# Altium footprint library MCXE31B.PcbLib: 35 footprints (part 2 of 3)
Each footprint in its own frame and in the unit in brackets; x right, y up, seen from the top. Pads: shape width x height; smd on the part's side, far side on the other; paste and mask are expansions set on the pad; w line width, h text height; cw(c..) or ccw(c..) is an arc to the next point about the centre after c.
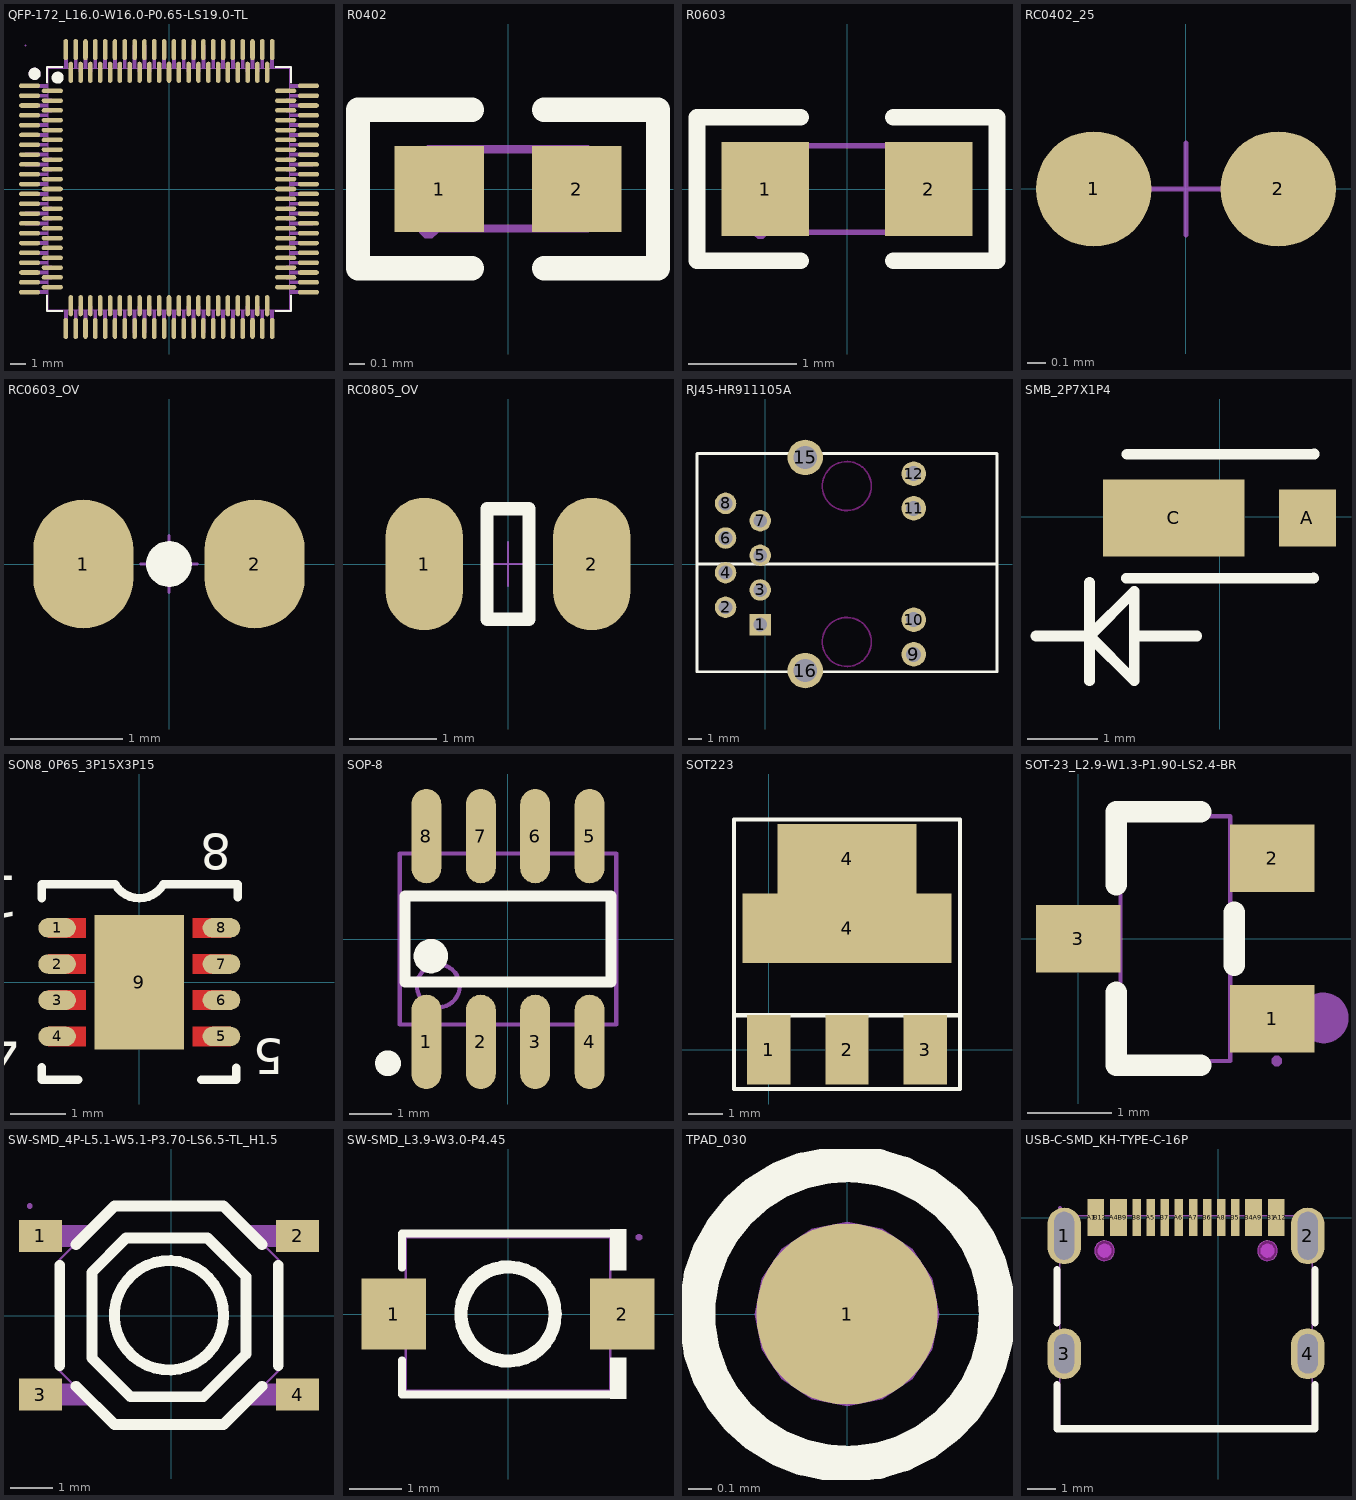
[diagram p1: the footprints below, top view; thin cyan lines are the x and y axes]

## QFP-172_L16.0-W16.0-P0.65-LS19.0-TL [mm]
height 13.3
pads (172):
  oval 1.4x0.3 smd paste+0.051: 1(-9.225,6.825) 2(-7.723,6.5) 3(-9.225,6.175) 4(-7.723,5.85) 5(-9.225,5.525) 6(-7.723,5.2) 7(-9.225,4.875) 8(-7.723,4.55) 9(-9.225,4.225) 10(-7.723,3.9) 11(-9.225,3.575) 12(-7.723,3.25) 13(-9.225,2.925) 14(-7.723,2.6) 15(-9.225,2.275) 16(-7.723,1.95) 17(-9.225,1.625) 18(-7.723,1.3) 19(-9.225,0.975) 20(-7.723,0.65) 21(-9.225,0.325) 22(-7.723,0) 23(-9.225,-0.325) 24(-7.723,-0.65) 25(-9.225,-0.975) 26(-7.723,-1.3) 27(-9.225,-1.625) 28(-7.723,-1.95) 29(-9.225,-2.275) 30(-7.723,-2.6) 31(-9.225,-2.925) 32(-7.723,-3.25) 33(-9.225,-3.575) 34(-7.723,-3.9) 35(-9.225,-4.225) 36(-7.723,-4.55) 37(-9.225,-4.875) 38(-7.723,-5.2) 39(-9.225,-5.525) 40(-7.723,-5.85) 41(-9.225,-6.175) 42(-7.723,-6.5) 43(-9.225,-6.825) 87(9.225,-6.825) 88(7.723,-6.5) 89(9.225,-6.175) 90(7.723,-5.85) 91(9.225,-5.525) 92(7.723,-5.2) 93(9.225,-4.875) 94(7.723,-4.55) 95(9.225,-4.225) 96(7.723,-3.9) 97(9.225,-3.575) 98(7.723,-3.25) 99(9.225,-2.925) 100(7.723,-2.6) 101(9.225,-2.275) 102(7.723,-1.95) 103(9.225,-1.625) 104(7.723,-1.3) 105(9.225,-0.975) 106(7.723,-0.65) 107(9.225,-0.325) 108(7.723,0) 109(9.225,0.325) 110(7.723,0.65) 111(9.225,0.975) 112(7.723,1.3) 113(9.225,1.625) 114(7.723,1.95) 115(9.225,2.275) 116(7.723,2.6) 117(9.225,2.925) 118(7.723,3.25) 119(9.225,3.575) 120(7.723,3.9) 121(9.225,4.225) 122(7.723,4.55) 123(9.225,4.875) 124(7.723,5.2) 125(9.225,5.525) 126(7.723,5.85) 127(9.225,6.175) 128(7.723,6.5) 129(9.225,6.825)
  oval 0.3x1.4 smd paste+0.051: 44(-6.825,-9.225) 45(-6.5,-7.723) 46(-6.175,-9.225) 47(-5.85,-7.723) 48(-5.525,-9.225) 49(-5.2,-7.723) 50(-4.875,-9.225) 51(-4.55,-7.723) 52(-4.225,-9.225) 53(-3.9,-7.723) 54(-3.575,-9.225) 55(-3.25,-7.723) 56(-2.925,-9.225) 57(-2.6,-7.723) 58(-2.275,-9.225) 59(-1.95,-7.723) 60(-1.625,-9.225) 61(-1.3,-7.723) 62(-0.975,-9.225) 63(-0.65,-7.723) 64(-0.325,-9.225) 65(0,-7.723) 66(0.325,-9.225) 67(0.65,-7.723) 68(0.975,-9.225) 69(1.3,-7.723) 70(1.625,-9.225) 71(1.95,-7.723) 72(2.275,-9.225) 73(2.6,-7.723) 74(2.925,-9.225) 75(3.25,-7.723) 76(3.575,-9.225) 77(3.9,-7.723) 78(4.225,-9.225) 79(4.55,-7.723) 80(4.875,-9.225) 81(5.2,-7.723) 82(5.525,-9.225) 83(5.85,-7.723) 84(6.175,-9.225) 85(6.5,-7.723) 86(6.825,-9.225) 130(6.825,9.225) 131(6.5,7.723) 132(6.175,9.225) 133(5.85,7.723) 134(5.525,9.225) 135(5.2,7.723) 136(4.875,9.225) 137(4.55,7.723) 138(4.225,9.225) 139(3.9,7.723) 140(3.575,9.225) 141(3.25,7.723) 142(2.925,9.225) 143(2.6,7.723) 144(2.275,9.225) 145(1.95,7.723) 146(1.625,9.225) 147(1.3,7.723) 148(0.975,9.225) 149(0.65,7.723) 150(0.325,9.225) 151(0,7.723) 152(-0.325,9.225) 153(-0.65,7.723) 154(-0.975,9.225) 155(-1.3,7.723) 156(-1.625,9.225) 157(-1.95,7.723) 158(-2.275,9.225) 159(-2.6,7.723) 160(-2.925,9.225) 161(-3.25,7.723) 162(-3.575,9.225) 163(-3.9,7.723) 164(-4.225,9.225) 165(-4.55,7.723) 166(-4.875,9.225) 167(-5.2,7.723) 168(-5.525,9.225) 169(-5.85,7.723) 170(-6.175,9.225) 171(-6.5,7.723) 172(-6.825,9.225)
Top Overlay:
  circle w0.4: c-7.366,7.366 r0.2
  circle w0.4: c-8.891,7.623 r0.2
  lines w0.152: -8.076,-7.068 -8.076,-8.076 -7.068,-8.076 ; -8.076,7.068 -8.076,8.076 -7.068,8.076 ; 7.068,-8.076 8.076,-8.076 8.076,-7.068 ; 7.068,8.076 8.076,8.076 8.076,7.068
Bottom Courtyard:
  lines w0.051: -8,-8 8,-8 8,8 -8,8 -8,-8
Top 3D Body:
  drawing of 88 lines, arcs and shapes, not listed
Bottom 3D Body:
  region: -9.44,9.5 -9.44,9.475 -9.475,9.44 -9.525,9.44 -9.56,9.475 -9.56,9.5 -9.56,9.525 -9.525,9.56 -9.475,9.56 -9.44,9.525
Top Component Center:
  drawing of 172 lines, arcs and shapes, not listed
Bottom Assembly:
  circle w0.4: c-8.891,7.623 r0.2

## R0402 [mm]
pads (2):
  rect 0.566x0.54 smd paste-100 mask+0.051: 1(-0.433,0) 2(0.433,0)
Top Overlay:
  lines w0.152: -0.226,-0.499 -0.944,-0.499 -0.944,0.499 -0.226,0.499 ; 0.226,-0.499 0.944,-0.499 0.944,0.499 0.226,0.499
Top Paste:
  region: -0.135,-0.23 -0.135,0.23 -0.175,0.27 -0.676,0.27 -0.716,0.23 -0.716,-0.23 -0.676,-0.27 -0.175,-0.27
  region: 0.135,-0.23 0.135,0.23 0.175,0.27 0.676,0.27 0.716,0.23 0.716,-0.23 0.676,-0.27 0.175,-0.27
Mechanical 15:
  region: -0.5,-0.19 -0.525,-0.19 -0.559,-0.225 -0.56,-0.275 -0.525,-0.31 -0.5,-0.31 -0.475,-0.31 -0.441,-0.275 -0.441,-0.225 -0.475,-0.19 -0.5,-0.19
  region: -0.249,0.25 -0.249,-0.25 -0.499,-0.25 -0.499,0.25
  region: 0.251,-0.25 0.251,0.25 0.501,0.25 0.501,-0.25
  lines w0.051: -0.5,-0.25 0.5,-0.25 0.5,0.25 -0.5,0.25 -0.5,-0.25

## R0603 [mm]
height 13.3
pads (2):
  rect 0.806x0.864 smd paste-100 mask+0.051: 1(-0.753,0) 2(0.753,0)
Top Overlay:
  lines w0.152: -0.426,-0.661 -1.385,-0.661 -1.385,0.661 -0.426,0.661 ; 0.426,-0.661 1.385,-0.661 1.385,0.661 0.426,0.661
Top Paste:
  region: 1.195,0.45 0.395,0.45 0.345,0.4 0.345,0.172 0.715,0.172 0.715,-0.158 0.345,-0.158 0.345,-0.4 0.395,-0.45 1.195,-0.45 1.245,-0.4 1.245,0.4
  region: -0.355,0.4 -0.355,0.172 -0.735,0.172 -0.735,-0.158 -0.355,-0.158 -0.355,-0.4 -0.405,-0.45 -1.195,-0.45 -1.245,-0.4 -1.245,0.4 -1.195,0.45 -0.405,0.45
Mechanical 15:
  region: -0.8,-0.4 -0.8,0.4 -0.5,0.4 -0.5,-0.4
  region: 0.8,-0.4 0.8,0.4 0.5,0.4 0.5,-0.4
  region: -0.8,-0.34 -0.825,-0.34 -0.86,-0.375 -0.86,-0.425 -0.825,-0.46 -0.8,-0.46 -0.775,-0.46 -0.74,-0.425 -0.74,-0.375 -0.775,-0.34 -0.8,-0.34
  lines w0.051: -0.8,-0.4 -0.8,0.4 0.8,0.4 0.8,-0.4 -0.8,-0.4

## RC0402_25 [mil]
height 523.62
pads (2):
  round 25 smd: 1(-20,0) 2(20,0)
Top Component Center:
  lines w1: -10,0 10,0 ; 0,-10 0,10

## RC0603_OV [mil]
height 523.62
pads (2):
  oval 35x45 smd: 1(-30,0) 2(30,0)
Top Overlay:
  circle w6: c0,0 r5
  dashed: 3.03,0.04 2.14,-2.1 0,-2.99 -1.41,-2.4 -2.14,-2.1 -3.03,0.04 -2.14,2.18 -1.41,2.48 0,3.07 2.14,2.18
Top Component Center:
  lines w1: -10,0 10,0 ; 0,-10 0,10

## RC0805_OV [mil]
pads (2):
  oval 35x60 smd: 1(-38,0) 2(38,0)
Top Overlay:
  lines w6: -9.5,-25 -9.5,25 9.5,25 9.5,-25 -9.5,-25
Top Component Center:
  lines w1: -10,0 10,0 ; 0,-10 0,10

## RJ45-HR911105A [mm] "HR911105A"
height 1.5
pads (14):
  rect 1.575x1.575 hole 1.016: 1(-0.38,-4.445)
  round 1.575 hole 1.016: 2(-2.92,-3.175) 3(-0.38,-1.905) 4(-2.92,-0.635) 5(-0.38,0.635) 6(-2.92,1.905) 7(-0.38,3.175) 8(-2.92,4.445)
  round 1.8 hole 1.1: 9(10.87,-6.625) 10(10.87,-4.085) 11(10.87,4.085) 12(10.87,6.625)
  round 2.6 hole 1.7: 15(2.92,7.815) 16(2.92,-7.815)
Top Overlay:
  lines w0.2: -5.013,0 16.87,0
  lines w0.203: -5.017,-7.91 -5.011,-7.904 ; -5.017,8.092 -5.013,8.096 ; 16.977,-7.904 2.823,-7.904 -5.011,-7.904 ; 16.979,8.096 2.823,8.096 -5.013,8.096 ; 16.983,-7.91 16.983,8.092 ; -5.013,8.096 -5.013,-7.902 -5.011,-7.904
Keep-Out Layer:
  circle w0.127: c5.97,-5.715 r1.798
  circle w0.127: c5.97,5.715 r1.798

## SMB_2P7X1P4 [mil]
pads (2):
  rect 32x32 smd: A(49.15,-0.59)
  rect 79x43 smd: C(-25.65,-0.59)
Top Overlay:
  lines w6: -102.73,-66.68 -72.73,-66.68 ; -72.73,-91.68 -72.73,-36.68 ; -52.19,-34.41 52.62,-34.41 52.62,-34.17 ; -51.75,35.04 53.05,35.04 53.05,35.28 ; -47.73,-66.68 -12.73,-66.68 ; -72.73,-66.68 -47.73,-41.68 -47.73,-91.68 -72.73,-66.68
Top Component Center:
  lines w1: -10.06,-0.59 9.94,-0.59 ; -0.06,-10.59 -0.06,9.41

## SON8_0P65_3P15X3P15 [mm]
pads (9):
  oval 0.675x0.35 smd: 1(-1.475,0.975) 2(-1.475,0.325) 3(-1.475,-0.325) 4(-1.475,-0.975) 5(1.475,-0.975) 6(1.475,-0.325) 7(1.475,0.325) 8(1.475,0.975)
  rect 1.6x2.413 smd: 9(0,0)
Top Layer:
  region: -0.962,-1.15 -1.637,-1.15 -1.637,-0.8 -0.962,-0.8
  region: -0.962,-0.5 -1.637,-0.5 -1.637,-0.15 -0.962,-0.15
  region: -0.962,0.15 -1.637,0.15 -1.637,0.5 -0.962,0.5
  region: -0.962,0.8 -1.637,0.8 -1.637,1.15 -0.962,1.15
  region: 0.962,-0.8 1.637,-0.8 1.637,-1.15 0.962,-1.15
  region: 0.962,-0.15 1.637,-0.15 1.637,-0.5 0.962,-0.5
  region: 0.962,0.5 1.637,0.5 1.637,0.15 0.962,0.15
  region: 0.962,1.15 1.637,1.15 1.637,0.8 0.962,0.8
Top Overlay:
  lines w0.152: -1.754,1.505 -1.754,1.753 -0.431,1.753 ccw(c0,2.007) 0.431,1.753 1.767,1.753 1.767,1.522 ; -1.748,-1.53 -1.748,-1.754 -1.095,-1.754 ; 1.115,-1.754 1.742,-1.754 1.742,-1.537
  text "8" at 1.651,2.667 h0.64
  text "4" at -2.159,-0.889 h0.76
  text "5" at 2.591,-1.016 h0.64
  text "1" at -2.159,1.905 h0.76
Top Paste:
  dashed: 0.125,-1.125 0.775,-1.125 0.775,-0.125 0.125,-0.125
  dashed: -0.775,-1.125 -0.125,-1.125 -0.125,-0.125 -0.775,-0.125
  dashed: -0.775,0.125 -0.125,0.125 -0.125,1.125 -0.775,1.125
  dashed: 0.125,0.125 0.775,0.125 0.775,1.125 0.125,1.125
  region: -1,-1.125 -1.65,-1.125 -1.65,-0.825 -1,-0.825
  region: -1,-0.475 -1.65,-0.475 -1.65,-0.175 -1,-0.175
  region: -1,0.175 -1.65,0.175 -1.65,0.475 -1,0.475
  region: -1,0.825 -1.65,0.825 -1.65,1.125 -1,1.125
  region: 1,-0.825 1.65,-0.825 1.65,-1.125 1,-1.125
  region: 1,-0.175 1.65,-0.175 1.65,-0.475 1,-0.475
  region: 1,0.475 1.65,0.475 1.65,0.175 1,0.175
  region: 1,1.125 1.65,1.125 1.65,0.825 1,0.825
Top Solder:
  region: -0.886,-1.201 -1.612,-1.201 -1.612,-0.749 -0.886,-0.749
  region: -0.886,-0.551 -1.612,-0.551 -1.612,-0.099 -0.886,-0.099
  region: -0.886,0.099 -1.612,0.099 -1.612,0.551 -0.886,0.551
  region: -0.886,0.749 -1.612,0.749 -1.612,1.201 -0.886,1.201
  region: 0.886,-0.749 1.612,-0.749 1.612,-1.201 0.886,-1.201
  region: 0.886,-0.099 1.612,-0.099 1.612,-0.551 0.886,-0.551
  region: 0.886,0.551 1.612,0.551 1.612,0.099 0.886,0.099
  region: 0.886,1.201 1.612,1.201 1.612,0.749 0.886,0.749
Top Component Center:
  lines w0.025: -0.254,0 0.254,0 ; 0,-0.254 0,0.254

## SOP-8 [mm]
height 13.3
pads (8):
  oval 0.7x2.2 smd: 1(-1.905,-2.4) 2(-0.635,-2.4) 3(0.635,-2.4) 4(1.905,-2.4) 5(1.905,2.4) 6(0.635,2.4) 7(-0.635,2.4) 8(-1.905,2.4)
Top Overlay:
  circle w0.3: c-2.8,-2.9 r0.15
  circle w0.4: c-1.8,-0.4 r0.2
  lines w0.254: -2.4,-1 2.4,-1 2.4,1 -2.4,1 -2.4,-1
Mechanical 13:
  circle w0.1: c-1.625,-1.095 r0.5
  lines w0.1: -2.525,-1.995 2.525,-1.995 2.525,1.995 -2.525,1.995 -2.525,-1.995
3D body "User Library-SOIC-8-150.STEP": height 1.75, standoff 0, extent -2.5,-3.1 2.5,3.1

## SOT223 [mil]
height 59.06
pads (5):
  rect 50x80 smd: 1(0,0) 2(90,0) 3(180,0)
  rect 240x80 smd: 4(90,140)
  rect 160x80 smd: 4(90,220)
Top Overlay:
  lines w5: -40,40 220,40 ; -40,-45 220,-45 220,265 -40,265 -40,-45

## SOT-23_L2.9-W1.3-P1.90-LS2.4-BR [mm]
height 13.3
pads (3):
  rect 1x0.8 smd paste+0.051: 1(2.3,-0.95) 2(2.3,0.95) 3(0,0)
Top Overlay:
  lines w0.254: 0.45,-0.636 0.45,-1.5 1.45,-1.5 ; 0.45,0.636 0.45,1.5 1.45,1.5 ; 1.85,-0.314 1.85,0.314
Bottom Courtyard:
  lines w0.051: 0.5,-1.45 0.5,1.45 1.8,1.45 1.8,-1.45 0.5,-1.45
Top 3D Body:
  region: 1.79,-1.15 1.79,-0.75 1.96,-0.75 1.96,-1.15
  region: 1.79,0.75 1.79,1.15 1.96,1.15 1.96,0.75
  region: 0.34,-0.2 0.34,0.2 0.51,0.2 0.51,-0.2
Bottom 3D Body:
  region: 2.41,-1.45 2.41,-1.475 2.375,-1.51 2.325,-1.51 2.29,-1.475 2.29,-1.45 2.29,-1.425 2.325,-1.39 2.375,-1.39 2.41,-1.425
Top Component Center:
  region: 1.95,-1.15 1.95,-0.75 2.35,-0.75 2.35,-1.15
  region: 1.95,0.75 1.95,1.15 2.35,1.15 2.35,0.75
  region: -0.05,-0.2 -0.05,0.2 0.35,0.2 0.35,-0.2
Bottom Assembly:
  circle w0.3: c2.903,-0.94 r0.15

## SW-SMD_4P-L5.1-W5.1-P3.70-LS6.5-TL_H1.5 [mm]
pads (4):
  rect 1x0.75 smd paste+0.051: 1(-3.056,1.86) 2(2.944,1.86) 3(-3.056,-1.84) 4(2.944,-1.84)
Top Overlay:
  circle w0.254: c-0.056,0.01 r1.275
  lines w0.254: -2.606,-1.158 -2.606,1.179 ; -2.226,-1.645 -1.331,-2.54 1.219,-2.54 2.114,-1.645 ; -2.226,1.665 -1.331,2.56 1.219,2.56 2.114,1.665 ; 2.494,-1.158 2.494,1.179 ; -1.857,-0.988 -1.857,1.011 -1.057,1.811 0.843,1.811 1.745,0.909 1.745,-0.889 0.744,-1.89 -0.955,-1.89 -1.857,-0.988
Bottom Courtyard:
  lines w0.051: -2.606,-1.29 -2.606,1.31 -1.356,2.56 1.244,2.56 2.494,1.31 2.494,-1.29 1.244,-2.54 -1.356,-2.54 -2.606,-1.29
Top 3D Body:
  region: -2.256,1.61 -1.756,2.11 -2.916,2.11 -2.916,1.61
  region: 2.145,-1.591 1.645,-2.09 2.805,-2.091 2.805,-1.591
  region: -2.256,-1.59 -1.756,-2.09 -2.916,-2.09 -2.916,-1.59
  region: 2.144,1.61 1.644,2.11 2.804,2.111 2.804,1.611
Bottom 3D Body:
  region: -3.246,2.56 -3.246,2.535 -3.281,2.5 -3.331,2.5 -3.366,2.535 -3.366,2.56 -3.366,2.585 -3.331,2.62 -3.281,2.62 -3.246,2.585
Top Component Center:
  region: -3.306,-2.09 -3.306,-1.59 -2.906,-1.59 -2.906,-2.09
  region: -3.306,1.609 -3.306,2.109 -2.906,2.109 -2.906,1.609
  region: 2.794,1.611 2.794,2.111 3.194,2.111 3.194,1.611
  region: 2.794,-2.09 2.794,-1.59 3.194,-1.59 3.194,-2.09

## SW-SMD_L3.9-W3.0-P4.45 [mm]
height 13.3
pads (2):
  rect 1.23x1.36 smd paste+0.051: 1(-2.185,0) 2(2.185,0)
Top Overlay:
  circle w0.254: c0,0 r0.9
  region: 1.95,-1.617 1.95,-0.832 2.255,-0.832 2.255,-1.617
  region: 1.95,1.617 1.95,0.832 2.255,0.832 2.255,1.617
  lines w0.152: -2.026,-0.883 -2.026,-1.541 2.026,-1.541 ; -2.026,0.883 -2.026,1.541 2.026,1.541
Top 3D Body:
  lines w0.051: -1.95,-1.465 1.95,-1.465 1.95,1.465 -1.95,1.465 -1.95,-1.465
Bottom 3D Body:
  region: 2.5,1.405 2.475,1.405 2.44,1.44 2.44,1.49 2.475,1.525 2.5,1.525 2.525,1.525 2.56,1.49 2.56,1.44 2.525,1.405 2.5,1.405
Top Component Center:
  region: 2.5,0.65 2.5,-0.65 1.6,-0.65 1.6,0.65
  region: -2.5,0.65 -2.5,-0.65 -1.6,-0.65 -1.6,0.65

## TPAD_030 [mil]
pads (1):
  round 30 smd: 1(0,0)
Top Overlay:
  circle w6: c0,0 r24.82
Top Courtyard:
  dashed: 0,15.29 -5.85,14.13 -10.81,10.81 -14.13,5.85 -15.29,0 -14.13,-5.85 -13.02,-7.52 -10.81,-10.81 -5.85,-14.13 0,-15.29 5.85,-14.13 10.81,-10.81 13.02,-7.52 14.13,-5.85 15.29,0 14.13,5.85 10.81,10.81 5.85,14.13
Top 3D Body:
  region: 0,15.29 -5.85,14.13 -10.81,10.81 -14.13,5.85 -15.29,0 -14.13,-5.85 -13.02,-7.52 -10.81,-10.81 -5.85,-14.13 0,-15.29 5.85,-14.13 10.81,-10.81 13.02,-7.52 14.13,-5.85 15.29,0 14.13,5.85 10.81,10.81 5.85,14.13
Top Component Center:
  lines w1: -10,0 10,0 ; 0,-10 0,10
3D body: height 150, standoff 0, extent -15.29,-15.29 15.29,15.29

## USB-C-SMD_KH-TYPE-C-16P [mm]
height 13.3
pads (20):
  oval 1.2x2 hole 0.7 slot 1.7 at 90 deg: 1(-5.46,-0.65) 2(3.18,-0.65)
  oval 1.2x1.8 hole 0.7 slot 1.4 at 90 deg: 3(-5.46,-4.83) 4(3.18,-4.83)
  rect 0.3x1.3 smd paste-100 mask+0.05: A1(-4.49,0) A4(-3.69,0) A5(-2.39,0) A6(-1.39,0) A7(-0.89,0) A8(0.11,0) A9(1.41,0) A12(2.21,0) B1(1.91,0) B4(1.11,0) B5(0.61,0) B6(-0.39,0) B7(-1.89,0) B8(-2.89,0) B9(-3.39,0) B12(-4.19,0)
Top Overlay:
  lines w0.254: -5.712,-5.922 -5.712,-7.495 3.432,-7.495 3.432,-5.922 ; -5.712,-3.738 -5.712,-1.842 ; 3.432,-3.738 3.432,-1.842
Top Paste:
  drawing of 16 lines, arcs and shapes, not listed
Keep-Out Layer:
  board cut-out: 2.1,-1.18 2.1,-1.11 2.047,-0.982 1.948,-0.883 1.82,-0.83 1.68,-0.83 1.552,-0.883 1.453,-0.982 1.4,-1.111 1.4,-1.18 1.4,-1.25 1.453,-1.378 1.552,-1.477 1.68,-1.53 1.82,-1.53 1.948,-1.477 2.047,-1.378 2.1,-1.25
  board cut-out: -3.68,-1.18 -3.68,-1.11 -3.733,-0.982 -3.832,-0.883 -3.96,-0.83 -4.1,-0.83 -4.228,-0.883 -4.327,-0.982 -4.38,-1.111 -4.38,-1.18 -4.38,-1.25 -4.327,-1.378 -4.228,-1.477 -4.1,-1.53 -3.96,-1.53 -3.832,-1.477 -3.733,-1.378 -3.68,-1.25
Mechanical 1:
  circle w0.005: c1.75,-1.18 r0.35
  circle w0.005: c-4.03,-1.18 r0.35
Bottom Courtyard:
  circle w0.25: c1.75,-1.18 r0.125
  circle w0.25: c-4.03,-1.18 r0.125
Mechanical 15:
  region: -4.34,0.345 -4.14,0.345 -4.14,-0.655 -4.34,-0.655
  region: -4.54,0.345 -4.34,0.345 -4.34,-0.655 -4.54,-0.655
  region: -3.54,0.345 -3.34,0.345 -3.34,-0.655 -3.54,-0.655
  region: -3.74,0.345 -3.54,0.345 -3.54,-0.655 -3.74,-0.655
  region: 1.26,0.345 1.46,0.345 1.46,-0.655 1.26,-0.655
  region: 1.06,0.345 1.26,0.345 1.26,-0.655 1.06,-0.655
  region: 2.06,0.345 2.26,0.345 2.26,-0.655 2.06,-0.655
  region: 1.86,0.345 2.06,0.345 2.06,-0.655 1.86,-0.655
  region: -2.99,0.345 -2.79,0.345 -2.79,-0.655 -2.99,-0.655
  region: -2.49,0.345 -2.29,0.345 -2.29,-0.655 -2.49,-0.655
  region: -1.99,0.345 -1.79,0.345 -1.79,-0.655 -1.99,-0.655
  region: -1.49,0.345 -1.29,0.345 -1.29,-0.655 -1.49,-0.655
  region: -0.99,0.345 -0.79,0.345 -0.79,-0.655 -0.99,-0.655
  region: -0.49,0.345 -0.29,0.345 -0.29,-0.655 -0.49,-0.655
  region: 0.51,0.345 0.71,0.345 0.71,-0.655 0.51,-0.655
  region: 0.01,0.345 0.21,0.345 0.21,-0.655 0.01,-0.655
  region: 3.03,-4.43 3.33,-4.43 3.33,-5.23 3.03,-5.23
  region: -5.61,-4.43 -5.31,-4.43 -5.31,-5.23 -5.61,-5.23
  region: 3.03,-0.1 3.33,-0.1 3.33,-1.2 3.03,-1.2
  region: -5.61,-0.1 -5.31,-0.1 -5.31,-1.2 -5.61,-1.2
  region: -5.55,0.345 -5.551,0.369 -5.586,0.402 -5.634,0.403 -5.669,0.369 -5.67,0.345 -5.669,0.321 -5.634,0.287 -5.586,0.287 -5.551,0.321
  lines w0.051: -5.61,-7.495 3.33,-7.495 3.33,0.055 -5.61,0.055 -5.61,-7.495
Multi-Layer:
  circle w0.254: c1.75,-1.18 r0.35
  circle w0.254: c-4.03,-1.18 r0.35